# EAGLE library part AD8232ACPZ-RL (library AD8232ACPZ-RL)
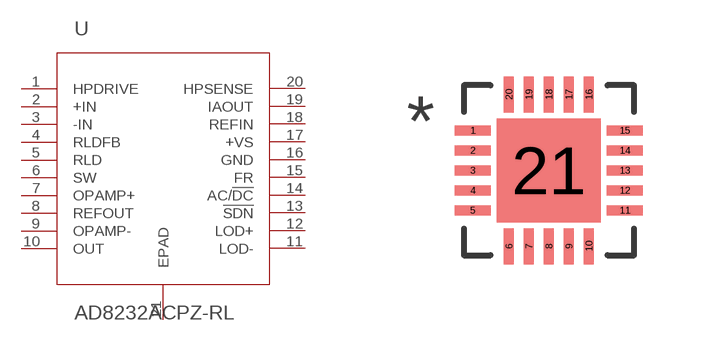
[diagram p0: symbol with the pads of AD8232ACPZ-RL; footprint AD8232ACPZ-RL]

Designator prefix U

## AD8232ACPZ-RLAD8232ACPZ-RL (COPYRIGHT: Copyright (C) 2024 Ultra Librarian. All rights reserved.; MANUFACTURER_PART_NUMBER: AD8232ACPZ-RL; MFR_NAME: Analog Devices Inc)  [AD8232ACPZ-RL]
1  HPDRIVE  out
2  +IN  in
3  -IN  in
4  RLDFB  in
5  RLD  out
6  SW  out
7  OPAMP+  in
8  REFOUT  out
9  OPAMP-  in
10  OUT  out
11  LOD-  out
12  LOD+  out
13  !SDN  in
14  AC/!DC  in
15  FR  in
16  GND  pwr
17  +VS  pwr
18  REFIN  in
19  IAOUT  out
20  HPSENSE  in
21  EPAD  pas

## Footprint AD8232ACPZ-RL (pad centres in mm)
smd 0.9 x 0.25: 1 -1.9,1; 2 -1.9,0.5; 3 -1.9,0; 4 -1.9,-0.5; 5 -1.9,-1; 11 1.9,-1; 12 1.9,-0.5; 13 1.9,0; 14 1.9,0.5; 15 1.9,1
smd 0.25 x 0.9: 6 -1,-1.9; 7 -0.5,-1.9; 8 0,-1.9; 9 0.5,-1.9; 10 1,-1.9; 16 1,1.9; 17 0.5,1.9; 18 0,1.9; 19 -0.5,1.9; 20 -1,1.9
smd 2.6 x 2.6: 21 0,0